# Altium footprint library Stove_Light.PcbLib: 127 footprints (part 7 of 8)
Each footprint in its own frame and in the unit in brackets; x right, y up, seen from the top. Pads: shape width x height; smd on the part's side, far side on the other; paste and mask are expansions set on the pad; w line width, h text height; cw(c..) or ccw(c..) is an arc to the next point about the centre after c.
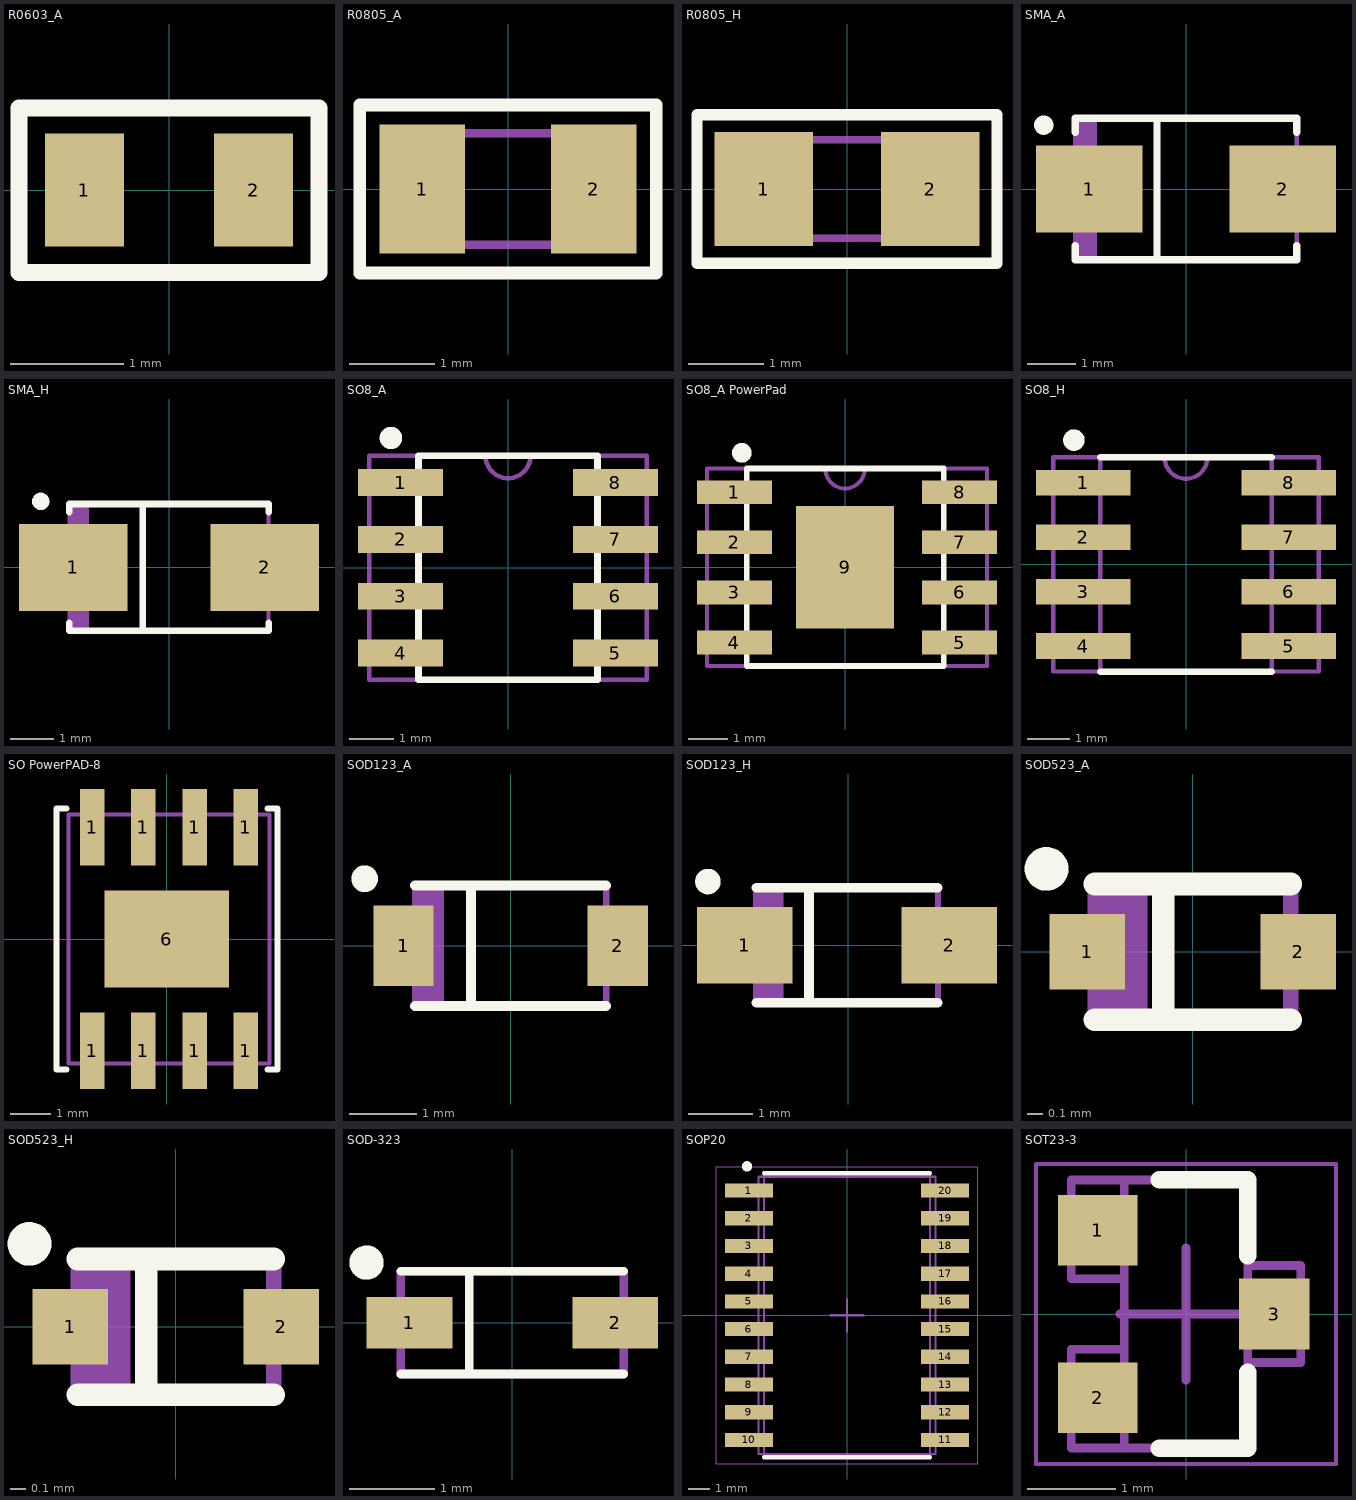
[diagram p6: the footprints below, top view; thin cyan lines are the x and y axes]

## R0603_A [mm]
height 0.45
pads (2):
  rect 0.7x1 smd: 1(-0.75,0) 2(0.75,0)
Top Overlay:
  lines w0.15: -1.33,-0.73 -1.33,0.73 1.33,0.73 1.33,-0.73 -1.33,-0.73
Mechanical 9:
  text ".Comment" at 0.25,-0.425 h0.6
  text ".Designator" at -0.975,0 h0.8
Mechanical 11:
  lines w0.1: -1.325,-0.725 1.325,-0.725 1.325,0.75 -1.325,0.75 -1.325,-0.725
3D body: height 0.5, standoff 0, extent -0.85,-0.4 0.75,0.4

## R0805_A [mm]
height 0.5
pads (2):
  rect 1x1.5 smd: 1(-1,0) 2(1,0)
Top Overlay:
  lines w0.15: -1.73,-0.98 1.73,-0.98 1.73,0.98 -1.73,0.98 -1.73,-0.98
Mechanical 9:
  text ".Designator" at -0.47,1.37 h0.8
  text ".Comment" at -0.56,-1.62 h0.6
Mechanical 11:
  lines w0.1: -1.05,-0.65 -1.05,0.65 1.05,0.65 1.05,-0.65 -1.05,-0.65
3D body: height 0.5, standoff 0, extent -1.05,-0.65 1.05,0.65

## R0805_H [mm]
height 0.5
pads (2):
  rect 1.3x1.5 smd: 1(-1.1,0) 2(1.1,0)
Top Overlay:
  lines w0.15: -1.98,-0.98 -1.98,0.98 1.98,0.98 1.98,-0.98 -1.98,-0.98
Mechanical 7:
  lines w0.1: -1.05,-0.65 -1.05,0.65 1.05,0.65 1.05,-0.65 -1.05,-0.65
Mechanical 10:
  text ".Designator" at -0.47,1.37 h0.8
  text ".Comment" at -0.64,-1.56 h0.6
3D body: height 0.5, standoff 0, extent -1.05,-0.65 1.05,0.65

## SMA_A [mm]
height 2.67
pads (2):
  rect 2.2x1.8 smd: 1(-2,0) 2(2,0)
Top Overlay:
  circle w0.2: c-2.94,1.32 r0.1
  lines w0.15: -2.29,-1.17 -2.29,-1.46 2.29,-1.46 2.29,-1.17 ; -2.29,1.17 -2.29,1.46 2.29,1.46 2.29,1.17 ; -0.6,-1.45 -0.6,1.45
Mechanical 9:
  text ".Designator" at -1.12,1.81 h0.8
  text ".Comment" at -0.88,-2.11 h0.8
Mechanical 11:
  lines w0.1: -2.29,-0.82 -2.8,-0.82 -2.8,0.82 -2.29,0.82 ; -2.19,-1.44 -2.19,1.46 ; -2.09,-1.44 -2.09,1.46 ; -1.99,-1.44 -1.99,1.46 ; -1.89,-1.44 -1.89,1.46 ; 2.29,-0.82 2.8,-0.82 2.8,0.82 2.29,0.82 ; -2.29,-1.46 2.29,-1.46 2.29,1.46 -2.29,1.46 -2.29,-1.46
3D body: height 2.4, standoff 0, extent -2.8,-1.45 2.8,1.45

## SMA_H [mm]
height 2.67
pads (2):
  rect 2.5x2 smd: 1(-2.2,0) 2(2.2,0)
Top Overlay:
  circle w0.2: c-2.95,1.52 r0.1
  lines w0.15: -2.29,-1.27 -2.29,-1.46 2.29,-1.46 2.29,-1.27 ; -2.29,1.27 -2.29,1.46 2.29,1.46 2.29,1.27 ; -0.6,-1.45 -0.6,1.45
Mechanical 7:
  lines w0.1: -2.29,-0.82 -2.8,-0.82 -2.8,0.82 -2.29,0.82 ; -2.19,-1.44 -2.19,1.46 ; -2.09,-1.44 -2.09,1.46 ; -1.99,-1.44 -1.99,1.46 ; -1.89,-1.44 -1.89,1.46 ; 2.29,-0.82 2.8,-0.82 2.8,0.82 2.29,0.82 ; -2.29,-1.46 -2.29,1.46 2.29,1.46 2.29,-1.46 -2.29,-1.46
Mechanical 10:
  text ".Comment" at -0.88,-2.11 h0.6
  text ".Designator" at -1.12,1.81 h0.8
3D body: height 2, standoff 0, extent 2.29,-0.82 2.8,0.82
3D body: height 2, standoff 0, extent -2.8,-0.82 -2.29,0.82
3D body: height 2.87, standoff 0.2, extent -2.29,-1.46 2.29,1.46

## SO8_A [mm]
height 1.75
pads (8):
  rect 1.9x0.6 smd: 1(-2.4,1.905) 2(-2.4,0.635) 3(-2.4,-0.635) 4(-2.4,-1.905) 5(2.4,-1.905) 6(2.4,-0.635) 7(2.4,0.635) 8(2.4,1.905)
Top Overlay:
  circle w0.25: c-2.615,2.9 r0.125
  lines w0.15: -2,-2.5 2,-2.5 2,2.5 -2,2.5 ; -2,-2.475 -2,2.475
Mechanical 9:
  text ".Comment" at -0.69,-3.25 h0.6
  text ".Designator" at -1,3.02 h0.8
Mechanical 11:
  lines w0.1: -2,-2.5 -2,2.5 ; -0.5,2.5 ccw(c0,2.5) 0.5,2.5 ; 2,-2.5 2,2.5 ; -3.1,-2.5 3.1,-2.5 3.1,2.5 -3.1,2.5 -3.1,-2.5
3D body: height 1.7, standoff 0, extent -3,-2.54 3,2.54

## SO8_A PowerPad [mm]
pads (9):
  rect 1.9x0.6 smd: 1(-2.8,1.905) 2(-2.8,0.635) 3(-2.8,-0.635) 4(-2.8,-1.905) 5(2.9,-1.905) 6(2.9,-0.635) 7(2.9,0.635) 8(2.9,1.905)
  rect 2.49x3.1 smd: 9(0,0)
Top Overlay:
  circle w0.25: c-2.615,2.9 r0.125
  lines w0.15: -2.49,-2.5 2.5,-2.5 2.5,2.5 -2.49,2.5 -2.49,-2.5
Mechanical 7:
  lines w0.1: -2.5,-2.5 -2.5,2.5 ; -0.5,2.5 ccw(c0,2.5) 0.5,2.5 ; 2.5,-2.5 2.5,2.5 ; -3.5,-2.5 3.6,-2.5 3.6,2.5 -3.5,2.5 -3.5,-2.5
Mechanical 10:
  text ".Comment" at -0.69,-3.25 h0.6
  text ".Designator" at -1,3.02 h0.8
3D body: height 1.7, standoff 0, extent -3,-2.54 3,2.54

## SO8_H [mm]
height 1.75
pads (8):
  rect 2.2x0.6 smd: 1(-2.4,1.905) 2(-2.4,0.635) 3(-2.4,-0.635) 4(-2.4,-1.905) 5(2.4,-1.905) 6(2.4,-0.635) 7(2.4,0.635) 8(2.4,1.905)
Top Overlay:
  circle w0.25: c-2.615,2.9 r0.125
  lines w0.15: -2,-2.5 2,-2.5 ; -2,2.5 2,2.5
Mechanical 7:
  lines w0.1: -2,-2.5 -2,2.5 ; -0.5,2.5 ccw(c0,2.5) 0.5,2.5 ; 2,-2.5 2,2.5 ; -3.1,-2.5 -3.1,2.5 3.1,2.5 3.1,-2.5 -3.1,-2.5
Mechanical 10:
  text ".Designator" at -1,3.02 h0.8
  text ".Comment" at -0.69,-3.25 h0.6
3D body: height 1.75, standoff 0, extent -2,-2.5 2,2.5
3D body: height 1, standoff 0, extent -3.1,-2.5 -2,2.5
3D body: height 1, standoff 0, extent 2,-2.5 3.1,2.5

## SO PowerPAD-8 [mm]
pads (9):
  rect 0.61x1.91 smd: 1(-1.855,-2.78) 1(-1.855,2.78) 1(-0.585,-2.78) 1(-0.585,2.78) 1(0.685,-2.78) 1(0.685,2.78) 1(1.955,-2.78) 1(1.955,2.78)
  rect 3.1x2.41 smd: 6(0,0)
Top Overlay:
  lines w0.15: -2.5,-3.25 -2.75,-3.25 -2.75,3.25 -2.5,3.25 ; 2.5,-3.25 2.75,-3.25 2.75,3.25 2.5,3.25
Mechanical 7:
  lines w0.1: -2.45,-3.1 2.55,-3.1 2.55,3.1 -2.45,3.1 -2.45,-3.1
3D body "User Library-HSOP8.STEP": height 1.75, standoff 0, extent -2.45,-3.1 2.55,3.1

## SOD123_A [mm]
height 1.35
pads (2):
  rect 0.9x1.2 smd: 1(-1.6,0) 2(1.6,0)
Top Overlay:
  circle w0.2: c-2.18,1 r0.1
  lines w0.15: -1.425,-0.9 1.425,-0.9 ; -1.425,0.9 1.425,0.9 ; -0.595,-0.9 -0.595,0.9
Mechanical 9:
  text ".Comment" at -0.91,-1.44 h0.6
  text ".Designator" at -0.95,1.21 h0.8
Mechanical 11:
  lines w0.1: -1.425,-0.35 -1.925,-0.35 -1.925,0.35 -1.425,0.35 ; -1.33,-0.9 -1.33,0.9 ; -1.235,-0.9 -1.235,0.9 ; -1.14,-0.9 -1.14,0.9 ; -1.045,-0.9 -1.045,0.9 ; 1.425,-0.35 1.925,-0.35 1.925,0.35 1.425,0.35 ; -1.425,-0.9 1.425,-0.9 1.425,0.9 -1.425,0.9 -1.425,-0.9
3D body: height 1.12, standoff -0.03, extent -1.875,-0.775 1.825,0.825

## SOD123_H [mm]
height 1.35
pads (2):
  rect 1.5x1.2 smd: 1(-1.62,0) 2(1.58,0)
Top Overlay:
  circle w0.2: c-2.2,1 r0.1
  lines w0.15: -1.445,-0.9 1.405,-0.9 ; -1.445,0.9 1.405,0.9 ; -0.615,-0.9 -0.615,0.9
Mechanical 7:
  lines w0.1: -1.445,-0.35 -1.945,-0.35 -1.945,0.35 -1.445,0.35 ; -1.35,-0.9 -1.35,0.9 ; -1.255,-0.9 -1.255,0.9 ; -1.16,-0.9 -1.16,0.9 ; -1.065,-0.9 -1.065,0.9 ; 1.405,-0.35 1.905,-0.35 1.905,0.35 1.405,0.35 ; -1.445,-0.9 -1.445,0.9 1.405,0.9 1.405,-0.9 -1.445,-0.9
Mechanical 10:
  text ".Comment" at -0.99,-1.44 h0.6
  text ".Designator" at -0.94,1.2 h0.8
3D body: height 1.35, standoff 0, extent -1.425,-0.9 1.425,0.9
3D body: height 0.5, standoff 0, extent -1.925,-0.35 -1.425,0.35
3D body: height 0.5, standoff 0, extent 1.425,-0.35 1.925,0.35

## SOD523_A [mm]
height 0.7
pads (2):
  rect 0.5x0.5 smd: 1(-0.7,0) 2(0.7,0)
Top Overlay:
  circle w0.15: c-0.97,0.55 r0.07
  lines w0.15: -0.65,-0.45 0.65,-0.45 ; -0.65,0.45 0.65,0.45 ; -0.195,-0.45 -0.195,0.45
Mechanical 9:
  text ".Comment" at -0.775,-1.025 h0.6
  text ".Designator" at -0.225,0.775 h0.8
Mechanical 11:
  lines w0.1: -0.65,-0.175 -0.85,-0.175 -0.85,0.175 -0.65,0.175 ; -0.55,-0.45 -0.55,0.45 ; -0.45,-0.45 -0.45,0.45 ; -0.35,-0.45 -0.35,0.45 ; 0.65,-0.175 0.85,-0.175 0.85,0.175 0.65,0.175 ; -0.65,-0.45 -0.65,0.45 0.65,0.45 0.65,-0.45 -0.65,-0.45
3D body: height 0.7, standoff 0, extent -0.65,-0.45 0.65,0.45
3D body: height 0.2, standoff 0, extent 0.65,-0.175 0.85,0.175
3D body: height 0.2, standoff 0, extent -0.85,-0.175 -0.65,0.175

## SOD523_H [mm]
height 0.7
pads (2):
  rect 0.5x0.5 smd: 1(-0.7,0) 2(0.7,0)
Top Overlay:
  circle w0.15: c-0.97,0.55 r0.07
  lines w0.15: -0.65,-0.45 0.65,-0.45 ; -0.65,0.45 0.65,0.45 ; -0.195,-0.45 -0.195,0.45
Mechanical 7:
  lines w0.1: -0.65,-0.175 -0.85,-0.175 -0.85,0.175 -0.65,0.175 ; -0.55,-0.45 -0.55,0.45 ; -0.45,-0.45 -0.45,0.45 ; -0.35,-0.45 -0.35,0.45 ; 0.65,-0.175 0.85,-0.175 0.85,0.175 0.65,0.175 ; -0.65,-0.45 0.65,-0.45 0.65,0.45 -0.65,0.45 -0.65,-0.45
Mechanical 10:
  text ".Designator" at -0.225,0.775 h0.8
  text ".Comment" at -0.775,-1.025 h0.6
3D body: height 0.2, standoff 0, extent 0.65,-0.175 0.85,0.175
3D body: height 0.2, standoff 0, extent -0.85,-0.175 -0.65,0.175
3D body: height 0.7, standoff 0, extent -0.65,-0.45 0.65,0.45

## SOD-323 [mm]
pads (2):
  rect 1x0.6 smd: 1(-1.2,0) 2(1.2,0)
Top Overlay:
  circle w0.2: c-1.7,0.7 r0.1
  lines w0.1: -1.3,-0.6 1.3,-0.6 ; -1.3,0.6 1.3,0.6 ; -0.5,-0.6 -0.5,0.6
Mechanical 7:
  lines w0.1: -1.3,-0.6 1.3,-0.6 1.3,0.6 -1.3,0.6 -1.3,-0.6
Mechanical 10:
  text ".Designator" at -1,1.1 h0.8
  text ".Comment" at -0.96,-1.55 h0.6
3D body: height 0.3, standoff 0, extent 0.8,-0.2 1.3,0.2
3D body: height 0.3, standoff 0, extent -1.3,-0.2 -0.8,0.2
3D body: height 1.13, standoff 0.1, extent -0.8,-0.6 0.8,0.6

## SOP20 [mm]
pads (20):
  rect 2.2x0.65 smd: 1(-4.5,5.715) 2(-4.5,4.445) 3(-4.5,3.175) 4(-4.5,1.905) 5(-4.5,0.635) 6(-4.5,-0.635) 7(-4.5,-1.905) 8(-4.5,-3.175) 9(-4.5,-4.445) 10(-4.5,-5.715) 11(4.5,-5.715) 12(4.5,-4.445) 13(4.5,-3.175) 14(4.5,-1.905) 15(4.5,-0.635) 16(4.5,0.635) 17(4.5,1.905) 18(4.5,3.175) 19(4.5,4.445) 20(4.5,5.715)
Top Overlay:
  circle w0.254: c-4.581,6.825 r0.106
  lines w0.2: -3.8,-6.5 3.8,-6.5 ; -3.8,6.5 3.8,6.5
Mechanical 7:
  lines w0.1: -3.8,-6.5 -3.8,6.5 3.8,6.5 3.8,-6.5 -3.775,-6.5
Mechanical 9:
  text ".Comment" at -0.75,-0.5 h0.8
  text ".Designator" at -0.75,0.25 h1
Mechanical 11:
  lines w0.1: -4.05,-6.35 4.05,-6.35 4.05,6.35 -4.05,6.35 -4.05,-6.35
Mechanical 15:
  lines w0.05: -6,-6.8 6,-6.8 6,6.8 -6,6.8 -6,-6.8
  lines w0.1: -0.75,0 0.75,0 ; 0,-0.75 0,0.75
3D body: height 2, standoff 0, extent -4.05,-6.35 4.05,6.35

## SOT23-3 [mm]
height 1.12
pads (3):
  rect 0.9x0.8 smd: 1(-1,0.95) 2(-1,-0.95)
  rect 0.8x0.8 smd: 3(1,0)
Top Overlay:
  lines w0.2: -0.3,-1.52 0.7,-1.52 0.7,-0.66 ; -0.3,1.52 0.7,1.52 0.7,0.66
Mechanical 9:
  text ".Designator" at -0.75,0.25 h1
  text ".Comment" at -0.75,-0.5 h0.8
Mechanical 11:
  lines w0.1: -0.7,-1.52 -0.7,1.52 ; -0.7,-0.4 -1.3,-0.4 -1.3,-1.52 0.7,-1.52 0.7,1.52 -1.3,1.52 -1.3,0.4 -0.7,0.4 ; 0.7,-0.55 1.3,-0.55 1.3,0.55 0.7,0.55
Mechanical 15:
  lines w0.05: -1.7,-1.7 1.7,-1.7 1.7,1.7 -1.7,1.7 -1.7,-1.7
  lines w0.1: -0.75,0 0.75,0 ; 0,-0.75 0,0.75
3D body: height 1.1, standoff 0, extent -1.15,-1.5 1.15,1.5